# Altium footprint library SMA_Smaller.PcbLib: 1 footprints
Each footprint in its own frame and in the unit in brackets; x right, y up, seen from the top. Pads: shape width x height; smd on the part's side, far side on the other; paste and mask are expansions set on the pad; w line width, h text height; cw(c..) or ccw(c..) is an arc to the next point about the centre after c.
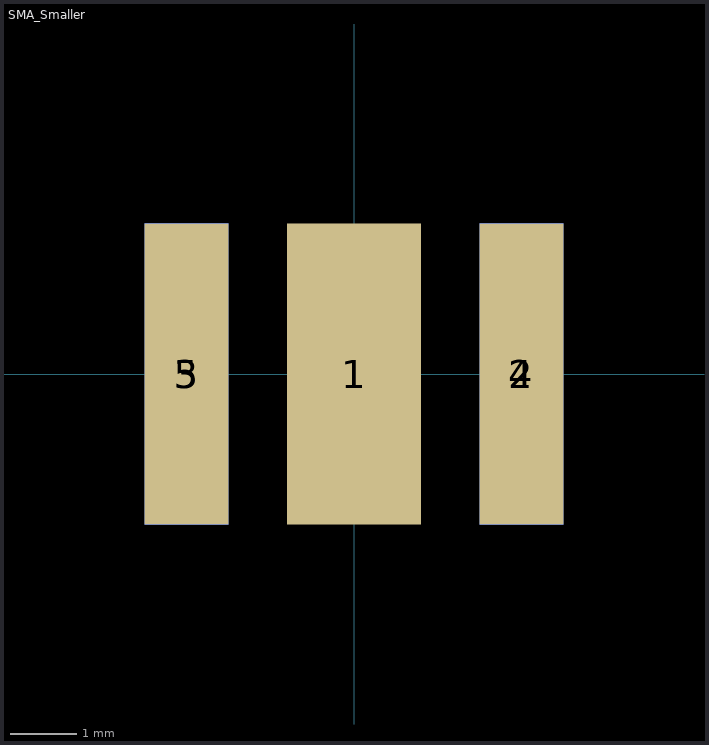
[diagram p0: the footprint, top view; thin cyan lines are the x and y axes]

## SMA_Smaller [mil] "Our smaller SMA connectors purchased from amazon.com"
pads (5):
  rect 80x180 smd: 1(0,0)
  rect 50x180 smd: 2(100,0) 3(-100,0)
  rect 50x180 smd far side: 4(100,0) 5(-100,0)